# Altium integrated library CAP 1812.IntLib: 1 symbol
Pins are listed as number, name and electrical type; pins without a type are passive.

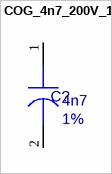
[diagram p0: symbol COG_4n7_200V_1]

## COG_4n7_200V_1
designator C?, comment value 4n7  Tolerance: 1%  (hidden comment: AWT25-500020)
Capacitor, 4.7nF 200V; ECAD_Revision: 2; Librarian: US; PartNumber: AWT25-500020; HelpURL: *; Item: *; Voltage: 200V
simulation model CAP (Capacitor)
footprint C1812
pins: 1, 2